# Altium schematic symbol library Resistors.SchLib: 129 symbols (part 3 of 3)
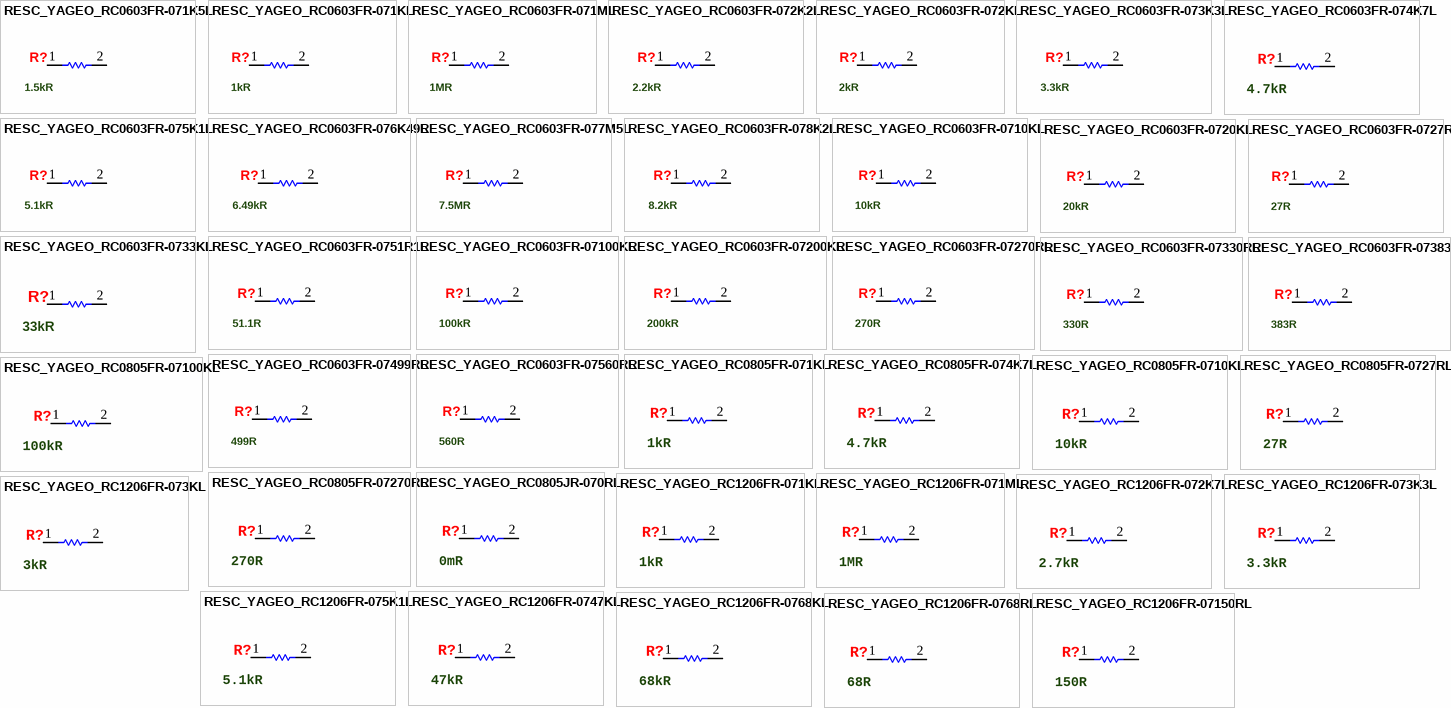
[diagram p5: symbols RESC_YAGEO_RC0603FR-071K5L to RESC_YAGEO_RC1206FR-07150RL]

## RESC_YAGEO_RC0603FR-076K49L
designator R?, comment 6.49kR
6.49 kOhms ±1% 0.1W, 1/10W Chip Resistor 0603 (1608 Metric) Moisture Resistant Thick Film; Manufacturer: Yageo; Manufacturer Part Number: RC0603FR-076K49L; Power Rating: 100mW; Voltage Rating (DC): 75V; Temperature Coefficient: 100ppm/°C; Current Rating: 1A; Category: Chip SMD Resistors; Case/Package: 0603; Min Operating Temperature: -55°C; Max Operating Temperature: 155°C; Tolerance: 1%; Resistance: 6.49kR; Resistor Type: Thick Film; ComponentLink1URL: https://www.yageo.com/upload/media/product/productsearch/datasheet/rchip/PYu-RC_Group_51_RoHS_L_12.pdf; ComponentLink1Description: Datasheet; RoHS Compliant: Yes; Supplier 1: Digi-Key; Supplier Part Number 1: 311-6.49KHRCT-ND; Supplier 2: Mouser; Supplier Part Number 2: 603-RC0603FR-076K49L; Mounting Type: SMD/SMT
footprint RESC1608X55L (Chip Resistor, EIA 0603, Metric 1608, Body 1.60x0.80mm, IPC High Density)
footprint RESC1608X55M (Chip Resistor, EIA 0603, Metric 1608, Body 1.60x0.80mm, IPC Low Density)
footprint RESC1608X55N (Chip Resistor, EIA 0603, Metric 1608, Body 1.60x0.80mm, IPC Medium Density)
simulation model Resistor (Model Description)
pins: 1, 2

## RESC_YAGEO_RC0603FR-077M5L
designator R?, comment 7.5MR
7.5 MOhms ±1% 0.1W, 1/10W Chip Resistor 0603 (1608 Metric) Moisture Resistant Thick Film; Manufacturer: Yageo; Manufacturer Part Number: RC0603FR-077M5L; Temperature Coefficient: 100ppm/°C; Power Rating: 100mW; Voltage Rating (DC): 75V; Current Rating: 1A; Category: Chip SMD Resistors; Case/Package: 0603; Min Operating Temperature: -55°C; Max Operating Temperature: 155°C; Resistance: 7.5MR; Tolerance: 1%; Resistor Type: Thick Film; ComponentLink1URL: https://www.yageo.com/upload/media/product/productsearch/datasheet/rchip/PYu-RC_Group_51_RoHS_L_12.pdf; ComponentLink1Description: Datasheet; RoHS Compliant: Yes; Supplier 1: Digi-Key; Supplier Part Number 1: 13-RC0603FR-077M5LCT-ND; Supplier 2: Mouser; Supplier Part Number 2: 603-RC0603FR-077M5L; Mounting Type: SMD/SMT
footprint RESC1608X55L (Chip Resistor, EIA 0603, Metric 1608, Body 1.60x0.80mm, IPC High Density)
footprint RESC1608X55M (Chip Resistor, EIA 0603, Metric 1608, Body 1.60x0.80mm, IPC Low Density)
footprint RESC1608X55N (Chip Resistor, EIA 0603, Metric 1608, Body 1.60x0.80mm, IPC Medium Density)
simulation model Resistor (Model Description)
pins: 1, 2

## RESC_YAGEO_RC0603FR-078K2L
designator R?, comment 8.2kR
8.2 kOhms ±1% 0.1W, 1/10W Chip Resistor 0603 (1608 Metric) Moisture Resistant Thick Film; Manufacturer: Yageo; Manufacturer Part Number: RC0603FR-078K2L; Voltage Rating (DC): 75V; Temperature Coefficient: 100ppm/°C; Power Rating: 100mW; Current Rating: 1A; Category: Chip SMD Resistors; Case/Package: 0603; Min Operating Temperature: -55°C; Max Operating Temperature: 155°C; Resistance: 8.2kR; Tolerance: 1%; Resistor Type: Thick Film; ComponentLink1URL: https://www.yageo.com/upload/media/product/productsearch/datasheet/rchip/PYu-RC_Group_51_RoHS_L_12.pdf; ComponentLink1Description: Datasheet; RoHS Compliant: Yes; Supplier 1: Digi-Key; Supplier Part Number 1: 311-8.20KHRCT-ND; Supplier 2: Mouser; Supplier Part Number 2: 603-RC0603FR-078K2L; Mounting Type: SMD/SMT
footprint RESC1608X55L (Chip Resistor, EIA 0603, Metric 1608, Body 1.60x0.80mm, IPC High Density)
footprint RESC1608X55M (Chip Resistor, EIA 0603, Metric 1608, Body 1.60x0.80mm, IPC Low Density)
footprint RESC1608X55N (Chip Resistor, EIA 0603, Metric 1608, Body 1.60x0.80mm, IPC Medium Density)
simulation model Resistor (Model Description)
pins: 1, 2

## RESC_YAGEO_RC0603FR-0710KL
designator R?, comment 10kR
10 kOhms ±1% 0.1W, 1/10W Chip Resistor 0603 (1608 Metric) Moisture Resistant Thick Film; Manufacturer: Yageo; Manufacturer Part Number: RC0603FR-0710KL; Temperature Coefficient: 100ppm/°C; Voltage Rating (DC): 75V; Power Rating: 100mW; Current Rating: 1A; Category: Chip SMD Resistors; Case/Package: 0603; Min Operating Temperature: -55°C; Max Operating Temperature: 155°C; Tolerance: 1%; Resistor Type: Thick Film; Resistance: 10kR; RoHS Compliant: Yes; Supplier 1: Digi-Key; Supplier Part Number 1: 311-10.0KHRCT-ND; Supplier 2: Mouser; Supplier Part Number 2: 603-RC0603FR-0710KL; ComponentLink1Description: Datasheet; ComponentLink1URL: https://www.yageo.com/upload/media/product/productsearch/datasheet/rchip/PYu-RC_Group_51_RoHS_L_12.pdf; Mounting Type: SMD/SMT
footprint RESC1608X55L (Chip Resistor, EIA 0603, Metric 1608, Body 1.60x0.80mm, IPC High Density)
footprint RESC1608X55M (Chip Resistor, EIA 0603, Metric 1608, Body 1.60x0.80mm, IPC Low Density)
footprint RESC1608X55N (Chip Resistor, EIA 0603, Metric 1608, Body 1.60x0.80mm, IPC Medium Density)
simulation model Resistor (Model Description)
pins: 1, 2

## RESC_YAGEO_RC0603FR-0720KL
designator R?, comment 20kR
20 kOhms ±1% 0.1W, 1/10W Chip Resistor 0603 (1608 Metric) Moisture Resistant Thick Film; Manufacturer: Yageo; Manufacturer Part Number: RC0603FR-0720KL; Temperature Coefficient: 100ppm/°C; Voltage Rating (DC): 75V; Power Rating: 100mW; Current Rating: 1A; Category: Chip SMD Resistors; Case/Package: 0603; Min Operating Temperature: -55°C; Max Operating Temperature: 155°C; Tolerance: 1%; Resistance: 20kR; Resistor Type: Thick Film; ComponentLink1URL: https://www.yageo.com/upload/media/product/productsearch/datasheet/rchip/PYu-RC_Group_51_RoHS_L_12.pdf; ComponentLink1Description: Datasheet; RoHS Compliant: Yes; Supplier 1: Digi-Key; Supplier Part Number 1: 311-20.0KHRCT-ND; Supplier 2: Mouser; Supplier Part Number 2: 603-RC0603FR-0720KL; Mounting Type: SMD/SMT
footprint RESC1608X55L (Chip Resistor, EIA 0603, Metric 1608, Body 1.60x0.80mm, IPC High Density)
footprint RESC1608X55M (Chip Resistor, EIA 0603, Metric 1608, Body 1.60x0.80mm, IPC Low Density)
footprint RESC1608X55N (Chip Resistor, EIA 0603, Metric 1608, Body 1.60x0.80mm, IPC Medium Density)
simulation model Resistor (Model Description)
pins: 1, 2

## RESC_YAGEO_RC0603FR-0727RL
designator R?, comment 27R
27 Ohms ±1% 0.1W, 1/10W Chip Resistor 0603 (1608 Metric) Moisture Resistant Thick Film; Manufacturer: Yageo; Manufacturer Part Number: RC0603FR-0727RL; Voltage Rating (DC): 75V; Temperature Coefficient: 100ppm/°C; Power Rating: 100mW; Current Rating: 1A; Category: Chip SMD Resistors; Case/Package: 0603; Min Operating Temperature: -55°C; Max Operating Temperature: 155°C; Resistance: 27R; Tolerance: 1%; Resistor Type: Thick Film; ComponentLink1Description: Datasheet; ComponentLink1URL: https://www.yageo.com/upload/media/product/productsearch/datasheet/rchip/PYu-RC_Group_51_RoHS_L_12.pdf; RoHS Compliant: Yes; Supplier 1: Digi-Key; Supplier Part Number 1: 311-27.0HRCT-ND; Supplier 2: Mouser; Supplier Part Number 2: 603-RC0603FR-0727RL; Mounting Type: SMD/SMT
footprint RESC1608X55L (Chip Resistor, EIA 0603, Metric 1608, Body 1.60x0.80mm, IPC High Density)
footprint RESC1608X55M (Chip Resistor, EIA 0603, Metric 1608, Body 1.60x0.80mm, IPC Low Density)
footprint RESC1608X55N (Chip Resistor, EIA 0603, Metric 1608, Body 1.60x0.80mm, IPC Medium Density)
simulation model Resistor (Model Description)
pins: 1, 2

## RESC_YAGEO_RC0603FR-0733KL
designator R?, comment 33kR
33 kOhms ±1% 0.1W, 1/10W Chip Resistor 0603 (1608 Metric) Moisture Resistant Thick Film; Manufacturer: Yageo; Manufacturer Part Number: RC0603FR-0733KL; Voltage Rating (DC): 75V; Temperature Coefficient: 100ppm/°C; Power Rating: 100mW; Current Rating: 1A; Category: Chip SMD Resistors; Case/Package: 0603; Min Operating Temperature: -55°C; Max Operating Temperature: 155°C; Resistance: 33kR; Tolerance: 1%; Resistor Type: Thick Film; ComponentLink1URL: https://www.yageo.com/upload/media/product/productsearch/datasheet/rchip/PYu-RC_Group_51_RoHS_L_12.pdf; ComponentLink1Description: Datasheet; RoHS Compliant: Yes; Supplier 1: Digi-Key; Supplier Part Number 1: 311-33.0KHRCT-ND; Supplier 2: Mouser; Supplier Part Number 2: 603-RC0603FR-0733KL; Mounting Type: SMD/SMT
footprint RESC1608X55L (Chip Resistor, EIA 0603, Metric 1608, Body 1.60x0.80mm, IPC High Density)
footprint RESC1608X55M (Chip Resistor, EIA 0603, Metric 1608, Body 1.60x0.80mm, IPC Low Density)
footprint RESC1608X55N (Chip Resistor, EIA 0603, Metric 1608, Body 1.60x0.80mm, IPC Medium Density)
simulation model Resistor (Model Description)
pins: 1, 2

## RESC_YAGEO_RC0603FR-0751R1L
designator R?, comment 51.1R
51.1 Ohms ±1% 0.1W, 1/10W Chip Resistor 0603 (1608 Metric) Moisture Resistant Thick Film; Manufacturer: Yageo; Manufacturer Part Number: RC0603FR-0751R1L; Temperature Coefficient: 100ppm/°C; Voltage Rating (DC): 75V; Power Rating: 100mW; Current Rating: 1A; Category: Chip SMD Resistors; Case/Package: 0603; Min Operating Temperature: -55°C; Max Operating Temperature: 155°C; Resistance: 51.1R; Tolerance: 1%; Resistor Type: Thick Film; ComponentLink1URL: https://www.yageo.com/upload/media/product/productsearch/datasheet/rchip/PYu-RC_Group_51_RoHS_L_12.pdf; ComponentLink1Description: Datasheet; RoHS Compliant: Yes; Supplier 1: Digi-Key; Supplier Part Number 1: 311-51.1HRCT-ND; Supplier 2: Mouser; Supplier Part Number 2: 603-RC0603FR-0751R1L; Mounting Type: SMD/SMT
footprint RESC1608X55L (Chip Resistor, EIA 0603, Metric 1608, Body 1.60x0.80mm, IPC High Density)
footprint RESC1608X55M (Chip Resistor, EIA 0603, Metric 1608, Body 1.60x0.80mm, IPC Low Density)
footprint RESC1608X55N (Chip Resistor, EIA 0603, Metric 1608, Body 1.60x0.80mm, IPC Medium Density)
simulation model Resistor (Model Description)
pins: 1, 2

## RESC_YAGEO_RC0603FR-07100KL
designator R?, comment 100kR
100 kOhms ±1% 0.1W, 1/10W Chip Resistor 0603 (1608 Metric) Moisture Resistant Thick Film; Manufacturer: Yageo; Manufacturer Part Number: RC0603FR-07100KL; Temperature Coefficient: 100ppm/°C; Voltage Rating (DC): 75V; Power Rating: 100mW; Current Rating: 1A; Category: Chip SMD Resistors; Case/Package: 0603; Min Operating Temperature: -55°C; Max Operating Temperature: 155°C; Tolerance: 1%; Resistor Type: Thick Film; Resistance: 100kR; ComponentLink1Description: Datasheet; ComponentLink1URL: https://www.yageo.com/upload/media/product/productsearch/datasheet/rchip/PYu-RC_Group_51_RoHS_L_12.pdf; RoHS Compliant: Yes; Supplier 1: Digi-Key; Supplier 2: Mouser; Supplier Part Number 1: 311-100KHRCT-ND; Supplier Part Number 2: 603-RC0603FR-07100KL; Mounting Type: SMD/SMT
footprint RESC1608X55L (Chip Resistor, EIA 0603, Metric 1608, Body 1.60x0.80mm, IPC High Density)
footprint RESC1608X55M (Chip Resistor, EIA 0603, Metric 1608, Body 1.60x0.80mm, IPC Low Density)
footprint RESC1608X55N (Chip Resistor, EIA 0603, Metric 1608, Body 1.60x0.80mm, IPC Medium Density)
simulation model Resistor (Model Description)
pins: 1, 2

## RESC_YAGEO_RC0603FR-07200KL
designator R?, comment 200kR
200 kOhms ±1% 0.1W, 1/10W Chip Resistor 0603 (1608 Metric) Moisture Resistant Thick Film; Manufacturer: Yageo; Manufacturer Part Number: RC0603FR-07200KL; Temperature Coefficient: 100ppm/°C; Voltage Rating (DC): 75V; Power Rating: 100mW; Current Rating: 1A; Category: Chip SMD Resistors; Case/Package: 0603; Min Operating Temperature: -55°C; Max Operating Temperature: 155°C; Resistance: 200kR; Tolerance: 1%; Resistor Type: Thick Film; ComponentLink1URL: https://www.yageo.com/upload/media/product/productsearch/datasheet/rchip/PYu-RC_Group_51_RoHS_L_12.pdf; ComponentLink1Description: Datasheet; RoHS Compliant: Yes; Supplier 1: Digi-Key; Supplier Part Number 1: 311-200KHRCT-ND; Supplier 2: Mouser; Supplier Part Number 2: 603-RC0603FR-07200KL; Mounting Type: SMD/SMT
footprint RESC1608X55L (Chip Resistor, EIA 0603, Metric 1608, Body 1.60x0.80mm, IPC High Density)
footprint RESC1608X55M (Chip Resistor, EIA 0603, Metric 1608, Body 1.60x0.80mm, IPC Low Density)
footprint RESC1608X55N (Chip Resistor, EIA 0603, Metric 1608, Body 1.60x0.80mm, IPC Medium Density)
simulation model Resistor (Model Description)
pins: 1, 2

## RESC_YAGEO_RC0603FR-07270RL
designator R?, comment 270R
270 Ohms ±1% 0.1W, 1/10W Chip Resistor 0603 (1608 Metric) Moisture Resistant Thick Film; Manufacturer: Yageo; Manufacturer Part Number: RC0603FR-07270RL; Power Rating: 100mW; Voltage Rating (DC): 75V; Temperature Coefficient: 100ppm/°C; Current Rating: 1A; Category: Chip SMD Resistors; Case/Package: 0603; Min Operating Temperature: -55°C; Max Operating Temperature: 155°C; Resistance: 270R; Tolerance: 1%; Resistor Type: Thick Film; ComponentLink1URL: https://www.yageo.com/upload/media/product/productsearch/datasheet/rchip/PYu-RC_Group_51_RoHS_L_12.pdf; ComponentLink1Description: Datasheet; RoHS Compliant: Yes; Supplier 1: Digi-Key; Supplier Part Number 1: 311-270HRCT-ND; Supplier 2: Mouser; Supplier Part Number 2: 603-RC0603FR-07270RL; Mounting Type: SMD/SMT
footprint RESC1608X55L (Chip Resistor, EIA 0603, Metric 1608, Body 1.60x0.80mm, IPC High Density)
footprint RESC1608X55M (Chip Resistor, EIA 0603, Metric 1608, Body 1.60x0.80mm, IPC Low Density)
footprint RESC1608X55N (Chip Resistor, EIA 0603, Metric 1608, Body 1.60x0.80mm, IPC Medium Density)
simulation model Resistor (Model Description)
pins: 1, 2

## RESC_YAGEO_RC0603FR-07330RL
designator R?, comment 330R
330 Ohms ±1% 0.1W, 1/10W Chip Resistor 0603 (1608 Metric) Moisture Resistant Thick Film; Manufacturer: Yageo; Manufacturer Part Number: RC0603FR-07330RL; Power Rating: 100mW; Voltage Rating (DC): 75V; Temperature Coefficient: 100ppm/°C; Current Rating: 1A; Category: Chip SMD Resistors; Case/Package: 0603; Min Operating Temperature: -55°C; Max Operating Temperature: 155°C; Resistance: 330R; Tolerance: 1%; Resistor Type: Thick Film; ComponentLink1URL: https://www.yageo.com/upload/media/product/productsearch/datasheet/rchip/PYu-RC_Group_51_RoHS_L_12.pdf; ComponentLink1Description: Datasheet; RoHS Compliant: Yes; Supplier 1: Digi-Key; Supplier Part Number 1: 311-330HRCT-ND; Supplier 2: Mouser; Supplier Part Number 2: 603-RC0603FR-07330RL; Mounting Type: SMD/SMT
footprint RESC1608X55L (Chip Resistor, EIA 0603, Metric 1608, Body 1.60x0.80mm, IPC High Density)
footprint RESC1608X55M (Chip Resistor, EIA 0603, Metric 1608, Body 1.60x0.80mm, IPC Low Density)
footprint RESC1608X55N (Chip Resistor, EIA 0603, Metric 1608, Body 1.60x0.80mm, IPC Medium Density)
simulation model Resistor (Model Description)
pins: 1, 2

## RESC_YAGEO_RC0603FR-07383RL
designator R?, comment 383R
383 Ohms ±1% 0.1W, 1/10W Chip Resistor 0603 (1608 Metric) Moisture Resistant Thick Film; Manufacturer: Yageo; Manufacturer Part Number: RC0603FR-07383RL; Power Rating: 100mW; Temperature Coefficient: 100ppm/°C; Voltage Rating (DC): 75V; Current Rating: 1A; Category: Chip SMD Resistors; Case/Package: 0603; Min Operating Temperature: -55°C; Max Operating Temperature: 155°C; Resistance: 383R; Tolerance: 1%; Resistor Type: Thick Film; ComponentLink1URL: https://www.yageo.com/upload/media/product/productsearch/datasheet/rchip/PYu-RC_Group_51_RoHS_L_12.pdf; ComponentLink1Description: Datasheet; RoHS Compliant: Yes; Supplier 1: Digi-Key; Supplier Part Number 1: 311-383HRCT-ND; Supplier 2: Mouser; Supplier Part Number 2: 603-RC0603FR-07383RL; Mounting Type: SMD/SMT
footprint RESC1608X55L (Chip Resistor, EIA 0603, Metric 1608, Body 1.60x0.80mm, IPC High Density)
footprint RESC1608X55M (Chip Resistor, EIA 0603, Metric 1608, Body 1.60x0.80mm, IPC Low Density)
footprint RESC1608X55N (Chip Resistor, EIA 0603, Metric 1608, Body 1.60x0.80mm, IPC Medium Density)
simulation model Resistor (Model Description)
pins: 1, 2

## RESC_YAGEO_RC0603FR-07499RL
designator R?, comment 499R
499 Ohms ±1% 0.1W, 1/10W Chip Resistor 0603 (1608 Metric) Moisture Resistant Thick Film; Manufacturer: Yageo; Manufacturer Part Number: RC0603FR-07499RL; Temperature Coefficient: 100ppm/°C; Power Rating: 100mW; Voltage Rating (DC): 75V; Current Rating: 1A; Category: Chip SMD Resistors; Case/Package: 0603; Min Operating Temperature: -55°C; Max Operating Temperature: 155°C; Resistance: 499R; Tolerance: 1%; Resistor Type: Thick Film; ComponentLink1URL: https://www.yageo.com/upload/media/product/productsearch/datasheet/rchip/PYu-RC_Group_51_RoHS_L_12.pdf; ComponentLink1Description: Datasheet; RoHS Compliant: Yes; Supplier 1: Digi-Key; Supplier Part Number 1: 311-499HRCT-ND; Supplier 2: Mouser; Supplier Part Number 2: 603-RC0603FR-07499RL; Mounting Type: SMD/SMT
footprint RESC1608X55N (Chip Resistor, EIA 0603, Metric 1608, Body 1.60x0.80mm, IPC Medium Density)
footprint RESC1608X55L (Chip Resistor, EIA 0603, Metric 1608, Body 1.60x0.80mm, IPC High Density)
footprint RESC1608X55M (Chip Resistor, EIA 0603, Metric 1608, Body 1.60x0.80mm, IPC Low Density)
simulation model Resistor (Model Description)
pins: 1, 2

## RESC_YAGEO_RC0603FR-07560RL
designator R?, comment 560R
560 Ohms ±1% 0.1W, 1/10W Chip Resistor 0603 (1608 Metric) Moisture Resistant Thick Film; Manufacturer: Yageo; Manufacturer Part Number: RC0603FR-07560RL; Voltage Rating (DC): 75V; Temperature Coefficient: 100ppm/°C; Power Rating: 100mW; Current Rating: 1A; Category: Chip SMD Resistors; Case/Package: 0603; Min Operating Temperature: -55°C; Max Operating Temperature: 155°C; Resistance: 560R; Tolerance: 1%; Resistor Type: Thick Film; ComponentLink1URL: https://www.yageo.com/upload/media/product/productsearch/datasheet/rchip/PYu-RC_Group_51_RoHS_L_12.pdf; ComponentLink1Description: Datasheet; RoHS Compliant: Yes; Supplier 1: Digi-Key; Supplier Part Number 1: 311-560HRCT-ND; Supplier 2: Mouser; Supplier Part Number 2: 603-RC0603FR-07560RL; Mounting Type: SMD/SMT
footprint RESC1608X55N (Chip Resistor, EIA 0603, Metric 1608, Body 1.60x0.80mm, IPC Medium Density)
footprint RESC1608X55L (Chip Resistor, EIA 0603, Metric 1608, Body 1.60x0.80mm, IPC High Density)
footprint RESC1608X55M (Chip Resistor, EIA 0603, Metric 1608, Body 1.60x0.80mm, IPC Low Density)
simulation model Resistor (Model Description)
pins: 1, 2

## RESC_YAGEO_RC0805FR-071KL
designator R?, comment 1kR
1 kOhms ±1% 0.125W, 1/8W Chip Resistor 0805 (2012 Metric) Moisture Resistant Thick Film; Manufacturer: Yageo; Manufacturer Part Number: RC0805FR-071KL; Temperature Coefficient: 100ppm/°C; Voltage Rating (DC): 150V; Power Rating: 125mW; Current Rating: 2A; Case/Package: 0805; Min Operating Temperature: -55°C; Max Operating Temperature: 155°C; Tolerance: 1%; Resistance: 1kR; Resistor Type: Thick Film; RoHS Compliant: Yes; Category: Chip SMD Resistors; ComponentLink1Description: Datasheet; ComponentLink1URL: https://www.yageo.com/upload/media/product/productsearch/datasheet/rchip/PYu-RC_Group_51_RoHS_L_12.pdf; Supplier 1: Digi-Key; Supplier 2: Mouser; Supplier Part Number 1: 311-1.00KCRCT-ND; Supplier Part Number 2: 603-RC0805FR-071KL; Mounting Type: SMD/SMT
footprint RESC2012X60N (Chip Resistor, EIA 0805, Metric 2012, Body 2.00x1.25mm, IPC Medium Density)
footprint RESC2012X60L (Chip Resistor, EIA 0805, Metric 2012, Body 2.00x1.25mm, IPC High Density)
footprint RESC2012X60M (Chip Resistor, EIA 0805, Metric 2012, Body 2.00x1.25mm, IPC Low Density)
simulation model Resistor (Model Description)
pins: 1, 2

## RESC_YAGEO_RC0805FR-074K7L
designator R?, comment 4.7kR
4.7 kOhms ±1% 0.125W, 1/8W Chip Resistor 0805 (2012 Metric) Moisture Resistant Thick Film; Manufacturer: Yageo; Manufacturer Part Number: RC0805FR-074K7L; Voltage Rating (DC): 150V; Temperature Coefficient: 100ppm/°C; Power Rating: 125mW; Current Rating: 2A; Category: Chip SMD Resistors; Case/Package: 0805; Min Operating Temperature: -55°C; Max Operating Temperature: 155°C; Resistor Type: Thick Film; Resistance: 4.7kR; Tolerance: 1%; RoHS Compliant: Yes; ComponentLink1URL: https://www.yageo.com/upload/media/product/productsearch/datasheet/rchip/PYu-RC_Group_51_RoHS_L_12.pdf; ComponentLink1Description: Datasheet; Supplier 1: Digi-Key; Supplier Part Number 1: 311-4.70KCRCT-ND; Supplier 2: Mouser; Supplier Part Number 2: 603-RC0805FR-074K7L; Mounting Type: SMD/SMT
simulation model Resistor (Model Description)
footprint RESC2012X60N (Chip Resistor, EIA 0805, Metric 2012, Body 2.00x1.25mm, IPC Medium Density)
footprint RESC2012X60L (Chip Resistor, EIA 0805, Metric 2012, Body 2.00x1.25mm, IPC High Density)
footprint RESC2012X60M (Chip Resistor, EIA 0805, Metric 2012, Body 2.00x1.25mm, IPC Low Density)
pins: 1, 2

## RESC_YAGEO_RC0805FR-0710KL
designator R?, comment 10kR
10 kOhms ±1% 0.125W, 1/8W Chip Resistor 0805 (2012 Metric) Moisture Resistant Thick Film; Manufacturer: Yageo; Manufacturer Part Number: RC0805FR-0710KL; Temperature Coefficient: 100ppm/°C; Power Rating: 125mW; Current Rating: 2A; Voltage Rating (DC): 150V; Category: Chip SMD Resistors; Case/Package: 0805; Min Operating Temperature: -55°C; Max Operating Temperature: 155°C; Resistance: 10kR; Tolerance: 1%; Resistor Type: Thick Film; RoHS Compliant: Yes; ComponentLink1Description: Datasheet; ComponentLink1URL: https://www.yageo.com/upload/media/product/productsearch/datasheet/rchip/PYu-RC_Group_51_RoHS_L_12.pdf; Supplier 1: Digi-Key; Supplier Part Number 1: 311-10.0KCRCT-ND; Supplier 2: Mouser; Supplier Part Number 2: 603-RC0805FR-0710KL; Mounting Type: SMD/SMT
footprint RESC2012X60N (Chip Resistor, EIA 0805, Metric 2012, Body 2.00x1.25mm, IPC Medium Density)
footprint RESC2012X60L (Chip Resistor, EIA 0805, Metric 2012, Body 2.00x1.25mm, IPC High Density)
footprint RESC2012X60M (Chip Resistor, EIA 0805, Metric 2012, Body 2.00x1.25mm, IPC Low Density)
simulation model Resistor (Model Description)
pins: 1, 2

## RESC_YAGEO_RC0805FR-0727RL
designator R?, comment 27R
27 Ohms ±1% 0.125W, 1/8W Chip Resistor 0805 (2012 Metric) Moisture Resistant Thick Film; Manufacturer: Yageo; Manufacturer Part Number: RC0805FR-0727RL; Temperature Coefficient: 100ppm/°C; Power Rating: 125mW; Current Rating: 2A; Voltage Rating (DC): 150V; Category: Chip SMD Resistors; Case/Package: 0805; Min Operating Temperature: -55°C; Max Operating Temperature: 155°C; Resistance: 27R; Tolerance: 1%; Resistor Type: Thick Film; RoHS Compliant: Yes; ComponentLink1URL: https://www.yageo.com/upload/media/product/productsearch/datasheet/rchip/PYu-RC_Group_51_RoHS_L_12.pdf; ComponentLink1Description: Datasheet; Supplier 1: Digi-Key; Supplier Part Number 1: 311-27.0CRCT-ND; Supplier 2: Mouser; Supplier Part Number 2: 603-RC0805FR-0727RL; Mounting Type: SMD/SMT
simulation model Resistor (Model Description)
footprint RESC2012X60N (Chip Resistor, EIA 0805, Metric 2012, Body 2.00x1.25mm, IPC Medium Density)
footprint RESC2012X60L (Chip Resistor, EIA 0805, Metric 2012, Body 2.00x1.25mm, IPC High Density)
footprint RESC2012X60M (Chip Resistor, EIA 0805, Metric 2012, Body 2.00x1.25mm, IPC Low Density)
pins: 1, 2

## RESC_YAGEO_RC0805FR-07100KL
designator R?, comment 100kR
100 kOhms ±1% 0.125W, 1/8W Chip Resistor 0805 (2012 Metric) Moisture Resistant Thick Film; Manufacturer: Yageo; Manufacturer Part Number: RC0805FR-07100KL; Power Rating: 125mW; Voltage Rating (DC): 150V; Temperature Coefficient: 100ppm/°C; Current Rating: 2A; Category: Chip SMD Resistors; Case/Package: 0805; Min Operating Temperature: -55°C; Max Operating Temperature: 155°C; Resistor Type: Thick Film; Tolerance: 1%; Resistance: 100kR; RoHS Compliant: Yes; ComponentLink1URL: https://www.yageo.com/upload/media/product/productsearch/datasheet/rchip/PYu-RC_Group_51_RoHS_L_12.pdf; ComponentLink1Description: Datasheet; Supplier 1: Digi-Key; Supplier Part Number 1: 311-100KCRCT-ND; Supplier 2: Mouser; Supplier Part Number 2: 603-RC0805FR-07100KL; Mounting Type: SMD/SMT
simulation model Resistor (Model Description)
footprint RESC2012X60N (Chip Resistor, EIA 0805, Metric 2012, Body 2.00x1.25mm, IPC Medium Density)
footprint RESC2012X60L (Chip Resistor, EIA 0805, Metric 2012, Body 2.00x1.25mm, IPC High Density)
footprint RESC2012X60M (Chip Resistor, EIA 0805, Metric 2012, Body 2.00x1.25mm, IPC Low Density)
pins: 1, 2

## RESC_YAGEO_RC0805FR-07270RL
designator R?, comment 270R
270 Ohms ±1% 0.125W, 1/8W Chip Resistor 0805 (2012 Metric) Moisture Resistant Thick Film; Manufacturer: Yageo; Manufacturer Part Number: RC0805FR-07270RL; Voltage Rating (DC): 150V; Temperature Coefficient: 100ppm/°C; Power Rating: 125mW; Current Rating: 2A; Category: Chip SMD Resistors; Case/Package: 0805; Min Operating Temperature: -55°C; Max Operating Temperature: 155°C; Resistance: 270R; Tolerance: 1%; Resistor Type: Thick Film; RoHS Compliant: Yes; ComponentLink1URL: https://www.yageo.com/upload/media/product/productsearch/datasheet/rchip/PYu-RC_Group_51_RoHS_L_12.pdf; ComponentLink1Description: Datasheet; Supplier 1: Digi-Key; Supplier Part Number 1: 311-270CRCT-ND; Supplier 2: Mouser; Supplier Part Number 2: 603-RC0805FR-07270RL; Mounting Type: SMD/SMT
footprint RESC2012X60N (Chip Resistor, EIA 0805, Metric 2012, Body 2.00x1.25mm, IPC Medium Density)
footprint RESC2012X60L (Chip Resistor, EIA 0805, Metric 2012, Body 2.00x1.25mm, IPC High Density)
footprint RESC2012X60M (Chip Resistor, EIA 0805, Metric 2012, Body 2.00x1.25mm, IPC Low Density)
simulation model Resistor (Model Description)
pins: 1, 2

## RESC_YAGEO_RC0805JR-070RL
designator R?, comment 0mR
0 Ohms Jumper Chip Resistor 0805 (2012 Metric) Moisture Resistant Thick Film; Manufacturer: Yageo; Manufacturer Part Number: RC0805JR-070RL; Tolerance: 5%; Power Rating: 125mW; Voltage Rating (DC): 150V; Temperature Coefficient: 200ppm/°C; Current Rating: 2A; Category: Chip SMD Resistors; Case/Package: 0805; Min Operating Temperature: -55°C; Max Operating Temperature: 155°C; Resistance: 0mR; Resistor Type: Thick Film; RoHS Compliant: Yes; ComponentLink1URL: https://www.yageo.com/upload/media/product/productsearch/datasheet/rchip/PYu-RC_Group_51_RoHS_L_12.pdf; ComponentLink1Description: Datasheet; Supplier 1: Digi-Key; Supplier Part Number 1: 311-0.0ARCT-ND; Supplier 2: Mouser; Supplier Part Number 2: 603-RC0805JR-070RL; Mounting Type: SMD/SMT
footprint RESC2012X60N (Chip Resistor, EIA 0805, Metric 2012, Body 2.00x1.25mm, IPC Medium Density)
footprint RESC2012X60L (Chip Resistor, EIA 0805, Metric 2012, Body 2.00x1.25mm, IPC High Density)
footprint RESC2012X60M (Chip Resistor, EIA 0805, Metric 2012, Body 2.00x1.25mm, IPC Low Density)
simulation model Resistor (Model Description)
pins: 1, 2

## RESC_YAGEO_RC1206FR-071KL
designator R?, comment 1kR
1 kOhms ±1% 0.25W, 1/4W Chip Resistor 1206 (3216 Metric) Moisture Resistant Thick Film; Manufacturer: Yageo; Manufacturer Part Number: RC1206FR-071KL; Power Rating: 250mW; Temperature Coefficient: 100ppm/°C; Current Rating: 2A; Voltage Rating (DC): 200V; Category: Chip SMD Resistors; Case/Package: 1206; Min Operating Temperature: -55°C; Max Operating Temperature: 155°C; Tolerance: 1%; Resistance: 1kR; Resistor Type: Thick Film; RoHS Compliant: Yes; ComponentLink1URL: https://www.yageo.com/upload/media/product/productsearch/datasheet/rchip/PYu-RC_Group_51_RoHS_L_12.pdf; ComponentLink1Description: Datasheet; Supplier 1: Digi-Key; Supplier 2: Mouser; Supplier Part Number 1: 311-1.00KFRCT-ND; Supplier Part Number 2: 603-RC1206FR-071KL; Mounting Type: SMD/SMT
simulation model Resistor (Model Description)
footprint RESC3116X65N (Chip Resistor, EIA 1206, Metric 3116, Body 3.10x1.60mm, IPC Medium Density)
footprint RESC3116X65L (Chip Resistor, EIA 1206, Metric 3116, Body 3.10x1.60mm, IPC High Density)
footprint RESC3116X65M (Chip Resistor, EIA 1206, Metric 3116, Body 3.10x1.60mm, IPC Low Density)
pins: 1, 2

## RESC_YAGEO_RC1206FR-071ML
designator R?, comment 1MR
1 MOhms ±1% 0.25W, 1/4W Chip Resistor 1206 (3216 Metric) Moisture Resistant Thick Film; Manufacturer: Yageo; Manufacturer Part Number: RC1206FR-071ML; Temperature Coefficient: 100ppm/°C; Power Rating: 250mW; Voltage Rating (DC): 200V; Current Rating: 2A; Category: Chip SMD Resistors; Case/Package: 1206; Min Operating Temperature: -55°C; Max Operating Temperature: 155°C; Tolerance: 1%; Resistance: 1MR; Resistor Type: Thick Film; RoHS Compliant: Yes; ComponentLink1URL: https://www.yageo.com/upload/media/product/productsearch/datasheet/rchip/PYu-RC_Group_51_RoHS_L_12.pdf; ComponentLink1Description: Datasheet; Supplier 1: Digi-Key; Supplier 2: Mouser; Supplier Part Number 1: 311-1.00MFRCT-ND; Supplier Part Number 2: 603-RC1206FR-071ML; Mounting Type: SMD/SMT
footprint RESC3116X65N (Chip Resistor, EIA 1206, Metric 3116, Body 3.10x1.60mm, IPC Medium Density)
footprint RESC3116X65L (Chip Resistor, EIA 1206, Metric 3116, Body 3.10x1.60mm, IPC High Density)
footprint RESC3116X65M (Chip Resistor, EIA 1206, Metric 3116, Body 3.10x1.60mm, IPC Low Density)
simulation model Resistor (Model Description)
pins: 1, 2

## RESC_YAGEO_RC1206FR-072K7L
designator R?, comment 2.7kR
2.7 kOhms ±1% 0.25W, 1/4W Chip Resistor 1206 (3216 Metric) Moisture Resistant Thick Film; Manufacturer: Yageo; Manufacturer Part Number: RC1206FR-072K7L; Power Rating: 250mW; Temperature Coefficient: 100ppm/°C; Voltage Rating (DC): 200V; Current Rating: 2A; Category: Chip SMD Resistors; Case/Package: 1206; Min Operating Temperature: -55°C; Max Operating Temperature: 155°C; Tolerance: 1%; Resistance: 2.7kR; Resistor Type: Thick Film; RoHS Compliant: Yes; ComponentLink1URL: https://www.yageo.com/upload/media/product/productsearch/datasheet/rchip/PYu-RC_Group_51_RoHS_L_12.pdf; ComponentLink1Description: Datasheet; Supplier 1: Digi-Key; Supplier 2: Mouser; Supplier Part Number 1: 311-2.70KFRCT-ND; Supplier Part Number 2: 603-RC1206FR-072K7L; Mounting Type: SMD/SMT
footprint RESC3116X65N (Chip Resistor, EIA 1206, Metric 3116, Body 3.10x1.60mm, IPC Medium Density)
footprint RESC3116X65L (Chip Resistor, EIA 1206, Metric 3116, Body 3.10x1.60mm, IPC High Density)
footprint RESC3116X65M (Chip Resistor, EIA 1206, Metric 3116, Body 3.10x1.60mm, IPC Low Density)
simulation model Resistor (Model Description)
pins: 1, 2

## RESC_YAGEO_RC1206FR-073K3L
designator R?, comment 3.3kR
3.3 kOhms ±1% 0.25W, 1/4W Chip Resistor 1206 (3216 Metric) Moisture Resistant Thick Film; Manufacturer: Yageo; Manufacturer Part Number: RC1206FR-073K3L; Voltage Rating (DC): 200V; Power Rating: 250mW; Temperature Coefficient: 100ppm/°C; Current Rating: 2A; Category: Chip SMD Resistors; Case/Package: 1206; Min Operating Temperature: -55°C; Max Operating Temperature: 155°C; Tolerance: 1%; Resistance: 3.3kR; Resistor Type: Thick Film; RoHS Compliant: Yes; ComponentLink1URL: https://www.yageo.com/upload/media/product/productsearch/datasheet/rchip/PYu-RC_Group_51_RoHS_L_12.pdf; ComponentLink1Description: Datasheet; Supplier 1: Digi-Key; Supplier 2: Mouser; Supplier Part Number 1: 311-3.30KFRCT-ND; Supplier Part Number 2: 603-RC1206FR-073K3L; Mounting Type: SMD/SMT
footprint RESC3116X65N (Chip Resistor, EIA 1206, Metric 3116, Body 3.10x1.60mm, IPC Medium Density)
footprint RESC3116X65L (Chip Resistor, EIA 1206, Metric 3116, Body 3.10x1.60mm, IPC High Density)
footprint RESC3116X65M (Chip Resistor, EIA 1206, Metric 3116, Body 3.10x1.60mm, IPC Low Density)
simulation model Resistor (Model Description)
pins: 1, 2

## RESC_YAGEO_RC1206FR-073KL
designator R?, comment 3kR
3 kOhms ±1% 0.25W, 1/4W Chip Resistor 1206 (3216 Metric) Moisture Resistant Thick Film; Manufacturer: Yageo; Manufacturer Part Number: RC1206FR-073KL; Power Rating: 250mW; Temperature Coefficient: 100ppm/°C; Voltage Rating (DC): 200V; Current Rating: 2A; Category: Chip SMD Resistors; Case/Package: 1206; Min Operating Temperature: -55°C; Max Operating Temperature: 155°C; Resistance: 3kR; Tolerance: 1%; Resistor Type: Thick Film; RoHS Compliant: Yes; ComponentLink1URL: https://www.yageo.com/upload/media/product/productsearch/datasheet/rchip/PYu-RC_Group_51_RoHS_L_12.pdf; ComponentLink1Description: Datasheet; Supplier 1: Digi-Key; Supplier 2: Mouser; Supplier Part Number 1: 311-3.00KFRCT-ND; Supplier Part Number 2: 603-RC1206FR-073KL; Mounting Type: SMD/SMT
footprint RESC3116X65N (Chip Resistor, EIA 1206, Metric 3116, Body 3.10x1.60mm, IPC Medium Density)
footprint RESC3116X65L (Chip Resistor, EIA 1206, Metric 3116, Body 3.10x1.60mm, IPC High Density)
footprint RESC3116X65M (Chip Resistor, EIA 1206, Metric 3116, Body 3.10x1.60mm, IPC Low Density)
simulation model Resistor (Model Description)
pins: 1, 2

## RESC_YAGEO_RC1206FR-075K1L
designator R?, comment 5.1kR
5.1 kOhms ±1% 0.25W, 1/4W Chip Resistor 1206 (3216 Metric) Moisture Resistant Thick Film; Manufacturer: Yageo; Manufacturer Part Number: RC1206FR-075K1L; Power Rating: 250mW; Temperature Coefficient: 100ppm/°C; Voltage Rating (DC): 200V; Current Rating: 2A; Category: Chip SMD Resistors; Case/Package: 1206; Min Operating Temperature: -55°C; Max Operating Temperature: 155°C; Resistance: 5.1kR; Tolerance: 1%; Resistor Type: Thick Film; RoHS Compliant: Yes; ComponentLink1URL: https://www.yageo.com/upload/media/product/productsearch/datasheet/rchip/PYu-RC_Group_51_RoHS_L_12.pdf; ComponentLink1Description: Datasheet; Supplier 1: Digi-Key; Supplier 2: Mouser; Supplier Part Number 1: 311-5.10KFRCT-ND; Supplier Part Number 2: 603-RC1206FR-075K1L; Mounting Type: SMD/SMT
footprint RESC3116X65N (Chip Resistor, EIA 1206, Metric 3116, Body 3.10x1.60mm, IPC Medium Density)
footprint RESC3116X65L (Chip Resistor, EIA 1206, Metric 3116, Body 3.10x1.60mm, IPC High Density)
footprint RESC3116X65M (Chip Resistor, EIA 1206, Metric 3116, Body 3.10x1.60mm, IPC Low Density)
simulation model Resistor (Model Description)
pins: 1, 2

## RESC_YAGEO_RC1206FR-0747KL
designator R?, comment 47kR
47 kOhms ±1% 0.25W, 1/4W Chip Resistor 1206 (3216 Metric) Moisture Resistant Thick Film; Manufacturer: Yageo; Manufacturer Part Number: RC1206FR-0747KL; Power Rating: 250mW; Temperature Coefficient: 100ppm/°C; Current Rating: 2A; Voltage Rating (DC): 200V; Category: Chip SMD Resistors; Case/Package: 1206; Min Operating Temperature: -55°C; Max Operating Temperature: 155°C; Tolerance: 1%; Resistance: 47kR; Resistor Type: Thick Film; RoHS Compliant: Yes; ComponentLink1URL: https://www.yageo.com/upload/media/product/productsearch/datasheet/rchip/PYu-RC_Group_51_RoHS_L_12.pdf; ComponentLink1Description: Datasheet; Supplier 1: Digi-Key; Supplier 2: Mouser; Supplier Part Number 1: 311-47.0KFRCT-ND; Supplier Part Number 2: 603-RC1206FR-0747KL; Mounting Type: SMD/SMT
simulation model Resistor (Model Description)
footprint RESC3116X65N (Chip Resistor, EIA 1206, Metric 3116, Body 3.10x1.60mm, IPC Medium Density)
footprint RESC3116X65M (Chip Resistor, EIA 1206, Metric 3116, Body 3.10x1.60mm, IPC Low Density)
footprint RESC3116X65L (Chip Resistor, EIA 1206, Metric 3116, Body 3.10x1.60mm, IPC High Density)
pins: 1, 2

## RESC_YAGEO_RC1206FR-0768KL
designator R?, comment 68kR
68 kOhms ±1% 0.25W, 1/4W Chip Resistor 1206 (3216 Metric) Moisture Resistant Thick Film; Manufacturer: Yageo; Manufacturer Part Number: RC1206FR-0768KL; Power Rating: 250mW; Voltage Rating (DC): 200V; Temperature Coefficient: 100ppm/°C; Current Rating: 2A; Category: Chip SMD Resistors; Case/Package: 1206; Min Operating Temperature: -55°C; Max Operating Temperature: 155°C; Resistor Type: Thick Film; Tolerance: 1%; Resistance: 68kR; RoHS Compliant: Yes; ComponentLink1URL: https://www.yageo.com/upload/media/product/productsearch/datasheet/rchip/PYu-RC_Group_51_RoHS_L_12.pdf; ComponentLink1Description: Datasheet; Supplier 1: Digi-Key; Supplier 2: Mouser; Supplier Part Number 1: 311-68.0KFRCT-ND; Supplier Part Number 2: 603-RC1206FR-0768KL; Mounting Type: SMD/SMT
footprint RESC3116X65N (Chip Resistor, EIA 1206, Metric 3116, Body 3.10x1.60mm, IPC Medium Density)
footprint RESC3116X65L (Chip Resistor, EIA 1206, Metric 3116, Body 3.10x1.60mm, IPC High Density)
footprint RESC3116X65M (Chip Resistor, EIA 1206, Metric 3116, Body 3.10x1.60mm, IPC Low Density)
simulation model Resistor (Model Description)
pins: 1, 2

## RESC_YAGEO_RC1206FR-0768RL
designator R?, comment 68R
68 Ohms ±1% 0.25W, 1/4W Chip Resistor 1206 (3216 Metric) Moisture Resistant Thick Film; Manufacturer: Yageo; Manufacturer Part Number: RC1206FR-0768RL; Voltage Rating (DC): 200V; Power Rating: 250mW; Temperature Coefficient: 100ppm/°C; Current Rating: 2A; Category: Chip SMD Resistors; Case/Package: 1206; Min Operating Temperature: -55°C; Max Operating Temperature: 155°C; Tolerance: 1%; Resistance: 68R; Resistor Type: Thick Film; RoHS Compliant: Yes; ComponentLink1URL: https://www.yageo.com/upload/media/product/productsearch/datasheet/rchip/PYu-RC_Group_51_RoHS_L_12.pdf; ComponentLink1Description: Datasheet; Supplier 1: Digi-Key; Supplier 2: Mouser; Supplier Part Number 1: 311-68.0FRCT-ND; Supplier Part Number 2: 603-RC1206FR-0768RL; Mounting Type: SMD/SMT
simulation model Resistor (Model Description)
footprint RESC3116X65N (Chip Resistor, EIA 1206, Metric 3116, Body 3.10x1.60mm, IPC Medium Density)
footprint RESC3116X65L (Chip Resistor, EIA 1206, Metric 3116, Body 3.10x1.60mm, IPC High Density)
footprint RESC3116X65M (Chip Resistor, EIA 1206, Metric 3116, Body 3.10x1.60mm, IPC Low Density)
pins: 1, 2

## RESC_YAGEO_RC1206FR-07150RL
designator R?, comment 150R
150 Ohms ±1% 0.25W, 1/4W Chip Resistor 1206 (3216 Metric) Moisture Resistant Thick Film; Manufacturer: Yageo; Manufacturer Part Number: RC1206FR-07150RL; Power Rating: 250mW; Temperature Coefficient: 100ppm/°C; Current Rating: 2A; Voltage Rating (DC): 200V; Category: Chip SMD Resistors; Case/Package: 1206; Min Operating Temperature: -55°C; Max Operating Temperature: 155°C; Tolerance: 1%; Resistance: 150R; Resistor Type: Thick Film; RoHS Compliant: Yes; ComponentLink1URL: https://www.yageo.com/upload/media/product/productsearch/datasheet/rchip/PYu-RC_Group_51_RoHS_L_12.pdf; ComponentLink1Description: Datasheet; Supplier 1: Digi-Key; Supplier 2: Mouser; Supplier Part Number 1: 311-150FRCT-ND; Supplier Part Number 2: 603-RC1206FR-07150RL; Mounting Type: SMD/SMT
footprint RESC3116X65N (Chip Resistor, EIA 1206, Metric 3116, Body 3.10x1.60mm, IPC Medium Density)
footprint RESC3116X65L (Chip Resistor, EIA 1206, Metric 3116, Body 3.10x1.60mm, IPC High Density)
footprint RESC3116X65M (Chip Resistor, EIA 1206, Metric 3116, Body 3.10x1.60mm, IPC Low Density)
simulation model Resistor (Model Description)
pins: 1, 2

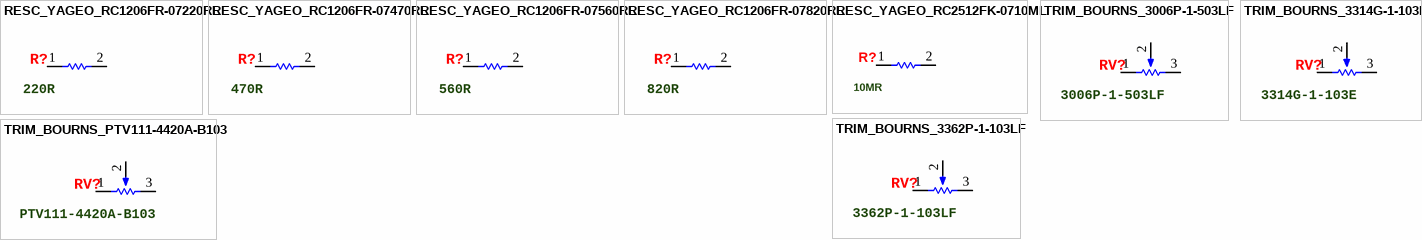
[diagram p3: symbols RESC_YAGEO_RC1206FR-07220RL to TRIM_BOURNS_PTV111-4420A-B103]

## RESC_YAGEO_RC1206FR-07220RL
designator R?, comment 220R
220 Ohms ±1% 0.25W, 1/4W Chip Resistor 1206 (3216 Metric) Moisture Resistant Thick Film; Manufacturer: Yageo; Manufacturer Part Number: RC1206FR-07220RL; Power Rating: 250mW; Voltage Rating (DC): 200V; Temperature Coefficient: 100ppm/°C; Current Rating: 2A; Category: Chip SMD Resistors; Case/Package: 1206; Min Operating Temperature: -55°C; Max Operating Temperature: 155°C; Resistance: 220R; Tolerance: 1%; Resistor Type: Thick Film; RoHS Compliant: Yes; ComponentLink1URL: https://www.yageo.com/upload/media/product/productsearch/datasheet/rchip/PYu-RC_Group_51_RoHS_L_12.pdf; ComponentLink1Description: Datasheet; Supplier 1: Digi-Key; Supplier 2: Mouser; Supplier Part Number 1: 311-220FRCT-ND; Supplier Part Number 2: 603-RC1206FR-07220RL; Mounting Type: SMD/SMT
footprint RESC3116X65N (Chip Resistor, EIA 1206, Metric 3116, Body 3.10x1.60mm, IPC Medium Density)
footprint RESC3116X65L (Chip Resistor, EIA 1206, Metric 3116, Body 3.10x1.60mm, IPC High Density)
footprint RESC3116X65M (Chip Resistor, EIA 1206, Metric 3116, Body 3.10x1.60mm, IPC Low Density)
simulation model Resistor (Model Description)
pins: 1, 2

## RESC_YAGEO_RC1206FR-07470RL
designator R?, comment 470R
470 Ohms ±1% 0.25W, 1/4W Chip Resistor 1206 (3216 Metric) Moisture Resistant Thick Film; Manufacturer: Yageo; Manufacturer Part Number: RC1206FR-07470RL; Power Rating: 250mW; Temperature Coefficient: 100ppm/°C; Current Rating: 2A; Voltage Rating (DC): 200V; Category: Chip SMD Resistors; Case/Package: 1206; Min Operating Temperature: -55°C; Max Operating Temperature: 155°C; Resistance: 470R; Tolerance: 1%; Resistor Type: Thick Film; RoHS Compliant: Yes; ComponentLink1URL: https://www.yageo.com/upload/media/product/productsearch/datasheet/rchip/PYu-RC_Group_51_RoHS_L_12.pdf; ComponentLink1Description: Datasheet; Supplier 1: Digi-Key; Supplier Part Number 1: 311-470FRCT-ND; Supplier 2: Mouser; Supplier Part Number 2: 603-RC1206FR-07470RL; Mounting Type: SMD/SMT
simulation model Resistor (Model Description)
footprint RESC3116X65N (Chip Resistor, EIA 1206, Metric 3116, Body 3.10x1.60mm, IPC Medium Density)
footprint RESC3116X65L (Chip Resistor, EIA 1206, Metric 3116, Body 3.10x1.60mm, IPC High Density)
footprint RESC3116X65M (Chip Resistor, EIA 1206, Metric 3116, Body 3.10x1.60mm, IPC Low Density)
pins: 1, 2

## RESC_YAGEO_RC1206FR-07560RL
designator R?, comment 560R
560 Ohms ±1% 0.25W, 1/4W Chip Resistor 1206 (3216 Metric) Moisture Resistant Thick Film; Manufacturer: Yageo; Manufacturer Part Number: RC1206FR-07560RL; Power Rating: 250mW; Temperature Coefficient: 100ppm/°C; Current Rating: 2A; Voltage Rating (DC): 200V; Category: Chip SMD Resistors; Case/Package: 1206; Min Operating Temperature: -55°C; Max Operating Temperature: 155°C; Resistor Type: Thick Film; Tolerance: 1%; Resistance: 560R; RoHS Compliant: Yes; ComponentLink1URL: https://www.yageo.com/upload/media/product/productsearch/datasheet/rchip/PYu-RC_Group_51_RoHS_L_12.pdf; ComponentLink1Description: Datasheet; Supplier 1: Digi-Key; Supplier 2: Mouser; Supplier Part Number 1: 311-560FRCT-ND; Supplier Part Number 2: 603-RC1206FR-07560RL; Mounting Type: SMD/SMT
simulation model Resistor (Model Description)
footprint RESC3116X65L (Chip Resistor, EIA 1206, Metric 3116, Body 3.10x1.60mm, IPC High Density)
footprint RESC3116X65N (Chip Resistor, EIA 1206, Metric 3116, Body 3.10x1.60mm, IPC Medium Density)
footprint RESC3116X65M (Chip Resistor, EIA 1206, Metric 3116, Body 3.10x1.60mm, IPC Low Density)
pins: 1, 2

## RESC_YAGEO_RC1206FR-07820RL
designator R?, comment 820R
820 Ohms ±1% 0.25W, 1/4W Chip Resistor 1206 (3216 Metric) Moisture Resistant Thick Film; Manufacturer: Yageo; Manufacturer Part Number: RC1206FR-07820RL; Power Rating: 250mW; Temperature Coefficient: 100ppm/°C; Current Rating: 2A; Voltage Rating (DC): 200V; Category: Chip SMD Resistors; Case/Package: 1206; Min Operating Temperature: -55°C; Max Operating Temperature: 155°C; Resistance: 820R; Tolerance: 1%; Resistor Type: Thick Film; RoHS Compliant: Yes; ComponentLink1URL: https://www.yageo.com/upload/media/product/productsearch/datasheet/rchip/PYu-RC_Group_51_RoHS_L_12.pdf; ComponentLink1Description: Datasheet; Supplier 1: Digi-Key; Supplier 2: Mouser; Supplier Part Number 1: 311-820FRCT-ND; Supplier Part Number 2: 603-RC1206FR-07820RL; Mounting Type: SMD/SMT
footprint RESC3116X65N (Chip Resistor, EIA 1206, Metric 3116, Body 3.10x1.60mm, IPC Medium Density)
footprint RESC3116X65L (Chip Resistor, EIA 1206, Metric 3116, Body 3.10x1.60mm, IPC High Density)
footprint RESC3116X65M (Chip Resistor, EIA 1206, Metric 3116, Body 3.10x1.60mm, IPC Low Density)
simulation model Resistor (Model Description)
pins: 1, 2

## RESC_YAGEO_RC2512FK-0710ML
designator R?, comment 10MR
10 MOhms ±1% 1W Chip Resistor 2512 (6432 Metric) Moisture Resistant Thick Film; Manufacturer: Yageo; Manufacturer Part Number: RC2512FK-0710ML; Temperature Coefficient: 100ppm/°C; Voltage Rating (DC): 200V; Current Rating: 2A; Category: Chip SMD Resistors; Case/Package: 2512; Min Operating Temperature: -55°C; Max Operating Temperature: 155°C; Resistance: 10MR; Tolerance: 1%; Resistor Type: Thick Film; Power Rating: 1W; ComponentLink1URL: https://www.yageo.com/upload/media/product/productsearch/datasheet/rchip/PYu-RC_Group_51_RoHS_L_12.pdf; ComponentLink1Description: Datasheet; RoHS Compliant: Yes; Supplier 1: Digi-Key; Supplier Part Number 1: 13-RC2512FK-0710MLCT-ND; Supplier 2: Mouser; Supplier Part Number 2: 603-RC2512FK-0710ML; Mounting Type: SMD/SMT
footprint RESC6431X65L (Chip Resistor, EIA 2512, Metric 6432, Body 6.35x3.10mm, IPC High Density)
footprint RESC6431X65M (Chip Resistor, EIA 2512, Metric 6432, Body 6.35x3.10mm, IPC Low Density)
footprint RESC6431X65N (Chip Resistor, EIA 2512, Metric 6432, Body 6.35x3.10mm, IPC Medium Density)
simulation model Resistor (Model Description)
pins: 1, 2

## TRIM_BOURNS_3006P-1-503LF
designator RV?, comment 3006P-1-503LF
50 kOhms 0.75W, 3/4W PC Pins Through Hole Trimmer Potentiometer Cermet 15.0 Turn Side Adjustment; Manufacturer: Bourns; Tolerance: 10%; Resistance: 50kR; Power Rating: 750mW; Temperature Coefficient: 100ppm/°C; Manufacturer Part Number: 3006P-1-503LF; Category: Variable Resistors and Potentiometers; Min Operating Temperature: -55°C; Max Operating Temperature: 125°C; Resistor Type: Cermet; RoHS Compliant: Yes; ComponentLink1URL: https://www.digikey.com/htmldatasheets/production/55985/0/0/1/3006-series-datasheet.pdf; ComponentLink1Description: Datasheet; Supplier 1: Digi-Key; Supplier 2: Mouser; Supplier Part Number 1: 3006P-503LF-ND; Supplier Part Number 2: 652-3006P-1-503-LF; Mounting Type: Through Hole
simulation model POT (Model Description)
footprint BOURNS_3006P-1-503LF (50 kOhms 0.75W, 3/4W PC Pins Through Hole Trimmer Potentiometer Cermet 15.0 Turn Side Adjustment)
pins: 1 CCW, 2 WIPER, 3 CW

## TRIM_BOURNS_3314G-1-103E
designator RV?, comment 3314G-1-103E
10 kOhms 0.25W, 1/4W Gull Wing Surface Mount Trimmer Potentiometer Cermet 1.0 Turn Top Adjustment; Manufacturer: Bourns; Resistance: 10kR; Tolerance: 20%; Power Rating: 250mW; Temperature Coefficient: 100ppm/°C; Voltage Rating (DC): 300V; Manufacturer Part Number: 3314G-1-103E; Category: Variable Resistors and Potentiometers; Case/Package: SMD/SMT; Min Operating Temperature: -55°C; Max Operating Temperature: 125°C; Resistor Type: Cermet; RoHS Compliant: Yes; ComponentLink1URL: https://www.bourns.com/docs/Product-Datasheets/3314.pdf; ComponentLink1Description: Datasheet; Mounting Type: Surface Mount; Supplier 1: Digi-Key; Supplier 2: Mouser; Supplier Part Number 1: 3314G-103ECT-ND; Supplier Part Number 2: 652-3314G-1-103E
simulation model POT (Model Description)
footprint BOURNS_314G-1-102E (10 kOhms 0.25W, 1/4W Gull Wing Surface Mount Trimmer Potentiometer Cermet 1.0 Turn Top Adjustment)
pins: 1 CCW, 2 WIPER, 3 CW

## TRIM_BOURNS_3362P-1-103LF
designator RV?, comment 3362P-1-103LF
10 kOhms 0.5W, 1/2W PC Pins Through Hole Trimmer Potentiometer Cermet 1.0 Turn Top Adjustment; Manufacturer: Bourns; Tolerance: 10%; Resistance: 10kR; Power Rating: 500mW; Temperature Coefficient: 100ppm/°C; Voltage Rating (DC): 300V; Manufacturer Part Number: 3362P-1-103LF; Category: Variable Resistors and Potentiometers; Min Operating Temperature: -55°C; Max Operating Temperature: 125°C; Resistor Type: Cermet; RoHS Compliant: Yes; ComponentLink1URL: https://www.bourns.com/docs/Product-Datasheets/3362.pdf; ComponentLink1Description: Datasheet; Supplier 1: Digi-Key; Supplier 2: Mouser; Supplier Part Number 1: 3362P-103LF-ND; Supplier Part Number 2: 3362P-103LF-ND; Mounting Type: Through Hole
simulation model POT (Model Description)
footprint BOURNS_3362P-1-103LF (10 kOhms 0.5W, 1/2W PC Pins Through Hole Trimmer Potentiometer Cermet 1.0 Turn Top Adjustment)
pins: 1 CCW, 2 WIPER, 3 CW

## TRIM_BOURNS_PTV111-4420A-B103
designator RV?, comment PTV111-4420A-B103
10k Ohm 1 Gang Linear Through Hole, Snap In Potentiometer None 1.0 Kierros Carbon 0.05W, 1/20W PC Pins, Board Locks; Manufacturer: Bourns; Resistance: 10kR; Tolerance: 20%; Power Rating: 50mW; Manufacturer Part Number: PTV111-4420A-B103; Category: Rotary Potentiometers, Rheostats; Min Operating Temperature: -10°C; Max Operating Temperature: 50°C; Resistor Type: Carbon; RoHS Compliant: Yes; ComponentLink1URL: https://www.digikey.com/htmldatasheets/production/1213356/0/0/1/ptv111-4415a-c103.pdf; ComponentLink1Description: Datasheet; Supplier 1: Digi-Key; Supplier 2: Mouser; Supplier Part Number 1: 118-PTV111-4420A-B103-ND; Supplier Part Number 2: 652-PTV1114420AB103; Mounting Type: Through Hole
footprint BOURNS_PTV111-4420A-B103 (10k Ohm 1 Gang Linear Through Hole, Snap In Potentiometer None 1.0 Kierros Carbon 0.05W, 1/20W PC Pins, Board Locks)
simulation model POT (Model Description)
pins: 1 CCW, 2 WIPER, 3 CW